# Altium footprint library Molex.PcbLib: 2 footprints
Each footprint in its own frame and in the unit in brackets; x right, y up, seen from the top. Pads: shape width x height; smd on the part's side, far side on the other; paste and mask are expansions set on the pad; w line width, h text height; cw(c..) or ccw(c..) is an arc to the next point about the centre after c.
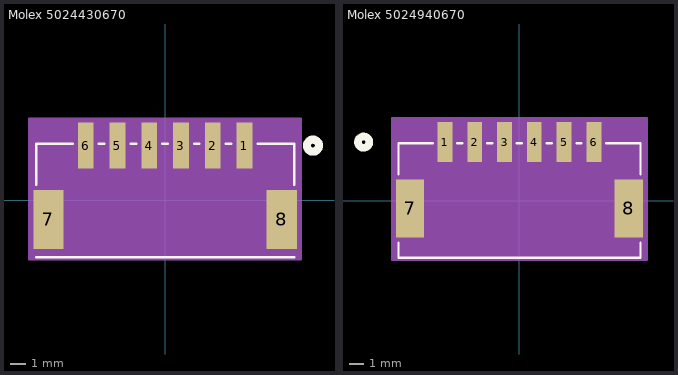
[diagram p0: the footprints below, top view; thin cyan lines are the x and y axes]

## Molex 5024430670 [mil]
pads (8):
  rect 39x114 smd paste+0 mask+0: 1(196.85,136) 2(118.11,136) 3(39.37,136) 4(-39.37,136) 5(-118.11,136) 6(-196.85,136)
  rect 75x146 smd paste+0 mask+0: 7(-289.37,-47.07) 8(289.37,-47.07)
Top Overlay:
  circle w20: c366.87,136 r15
  lines w6: -320,-141 320,-141 ; -320,39.03 -320,141 -229.45,141 ; -164.25,141 -150.71,141 ; -85.51,141 -71.97,141 ; -6.77,141 6.77,141 ; 71.97,141 85.51,141 ; 150.71,141 164.25,141 ; 229.45,141 320,141 320,39.03
  text ".Designator" at -137.5,111 h50
Bottom Overlay:
  circle w20: c366.87,136 r15
Mechanical 13:
  circle w20: c196.85,136 r15
  lines w1: -315,-136 315,-136 315,136 -315,136 -315,-136
  text ".Designator" at -235,225 h50
Mechanical 15:
  region: 336.87,203 -336.87,203 -336.87,-146 336.87,-146
  lines w6: -336.87,-146 -336.87,203 336.87,203 336.87,-146 -336.87,-146
3D body "5024430670.stp": height 292.32, standoff -2.95, extent -314.96,-129.92 314.96,173.23

## Molex 5024940670 [mil]
pads (8):
  rect 39x106 smd paste+0 mask+0: 1(-196.85,154.37) 2(-118.11,154.37) 3(-39.37,154.37) 4(39.37,154.37) 5(118.11,154.37) 6(196.85,154.37)
  rect 75x154 smd paste+0 mask+0: 7(-289.37,-20.82) 8(289.37,-20.82)
Top Overlay:
  circle w20: c-411.87,154.37 r15
  lines w6: -320,-110.92 -320,-151.5 320,-151.5 320,-110.92 ; -320,69.28 -320,151.5 -229.45,151.5 ; -164.25,151.5 -150.71,151.5 ; -85.51,151.5 -71.97,151.5 ; -6.77,151.5 6.77,151.5 ; 71.97,151.5 85.51,151.5 ; 150.71,151.5 164.25,151.5 ; 229.45,151.5 320,151.5 320,69.28
  text ".Designator" at -245,250 h50
Bottom Overlay:
  circle w20: c-411.87,154.37 r15
Mechanical 13:
  circle w20: c-196.85,154.37 r15
  lines w1: -315,-146.5 -315,146.5 315,146.5 315,-146.5 -315,-146.5
Mechanical 15:
  region: 336.87,217.37 -336.87,217.37 -336.87,-156.5 336.87,-156.5
  lines w6: -336.87,-156.5 336.87,-156.5 336.87,217.37 -336.87,217.37 -336.87,-156.5
3D body "5024940670.stp": height 267.72, standoff -3.94, extent -314.96,-134.64 314.96,200